# Altium schematic symbol library SCH - OPAMP - ANALOG DEV ADA4891-4WARUZ RU-14.SCHLIB: 1 symbol
Pins are listed as number, name and electrical type; pins without a type are passive.

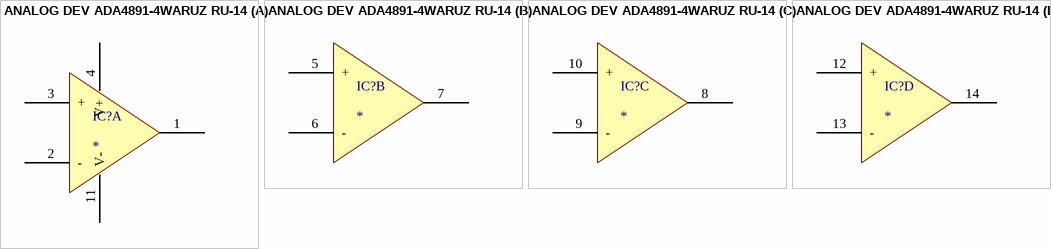
[diagram p0: symbol ANALOG DEV ADA4891-4WARUZ RU-14]

## ANALOG DEV ADA4891-4WARUZ RU-14
designator IC?
part A pins: 1 OUT, 2 -, 3 +, 4 V+, 11 V-
part B pins: 5 +, 6 -, 7 OUT
part C pins: 8 OUT, 9 -, 10 +
part D pins: 12 +, 13 -, 14 OUT